# EAGLE library part 418317170910 (library Wurth_Elektronik_Electromechanic_Switch_rev17b)
WS-PT 2.54 mm piano type compact THT Dip Switch with flat actuator, 10 Pole
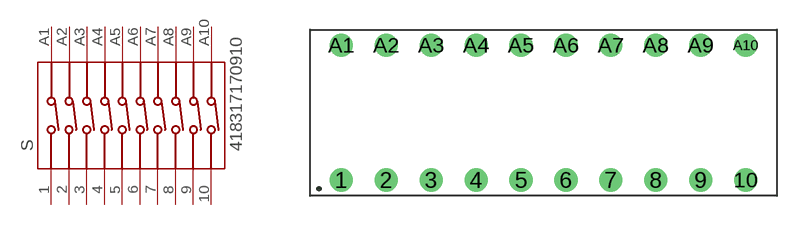
[diagram p68: symbol with the pads of 418317170910; footprint 418317170910]

Designator prefix S

## 418317170910  [418317170910]
1  1  pas
2  2  pas
3  3  pas
4  4  pas
5  5  pas
6  6  pas
7  7  pas
8  8  pas
9  9  pas
10  10  pas
A1  A1  pas
A2  A2  pas
A3  A3  pas
A4  A4  pas
A5  A5  pas
A6  A6  pas
A7  A7  pas
A8  A8  pas
A9  A9  pas
A10  A10  pas

## Footprint 418317170910 (pad centres in mm)
WS-PT 2.54 mm piano type compact THT Dip Switch with flat actuator, 10 Pole
drill 0.8: 1 -11.43,-3.81; 2 -8.89,-3.81; 3 -6.35,-3.81; 4 -3.81,-3.81; 5 -1.27,-3.81; 6 1.27,-3.81; 7 3.81,-3.81; 8 6.35,-3.81; 9 8.89,-3.81; 10 11.43,-3.81; A1 -11.43,3.81; A2 -8.89,3.81; A3 -6.35,3.81; A4 -3.81,3.81; A5 -1.27,3.81; A6 1.27,3.81; A7 3.81,3.81; A8 6.35,3.81; A9 8.89,3.81; A10 11.43,3.81